# Altium schematic symbol library tps61201_2.SchLib: 1 symbol
Pins are listed as number, name and electrical type; pins without a type are passive.

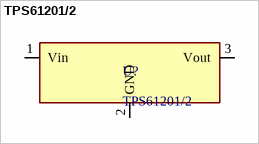
[diagram p0: symbol TPS61201/2]

## TPS61201/2
designator U?
footprint tps61201_2
pins: 1 Vin, 2 GND, 3 Vout